# Altium integrated library Silicon Labs Small Form Factor MCUs.IntLib: 100 symbols (part 4 of 5)
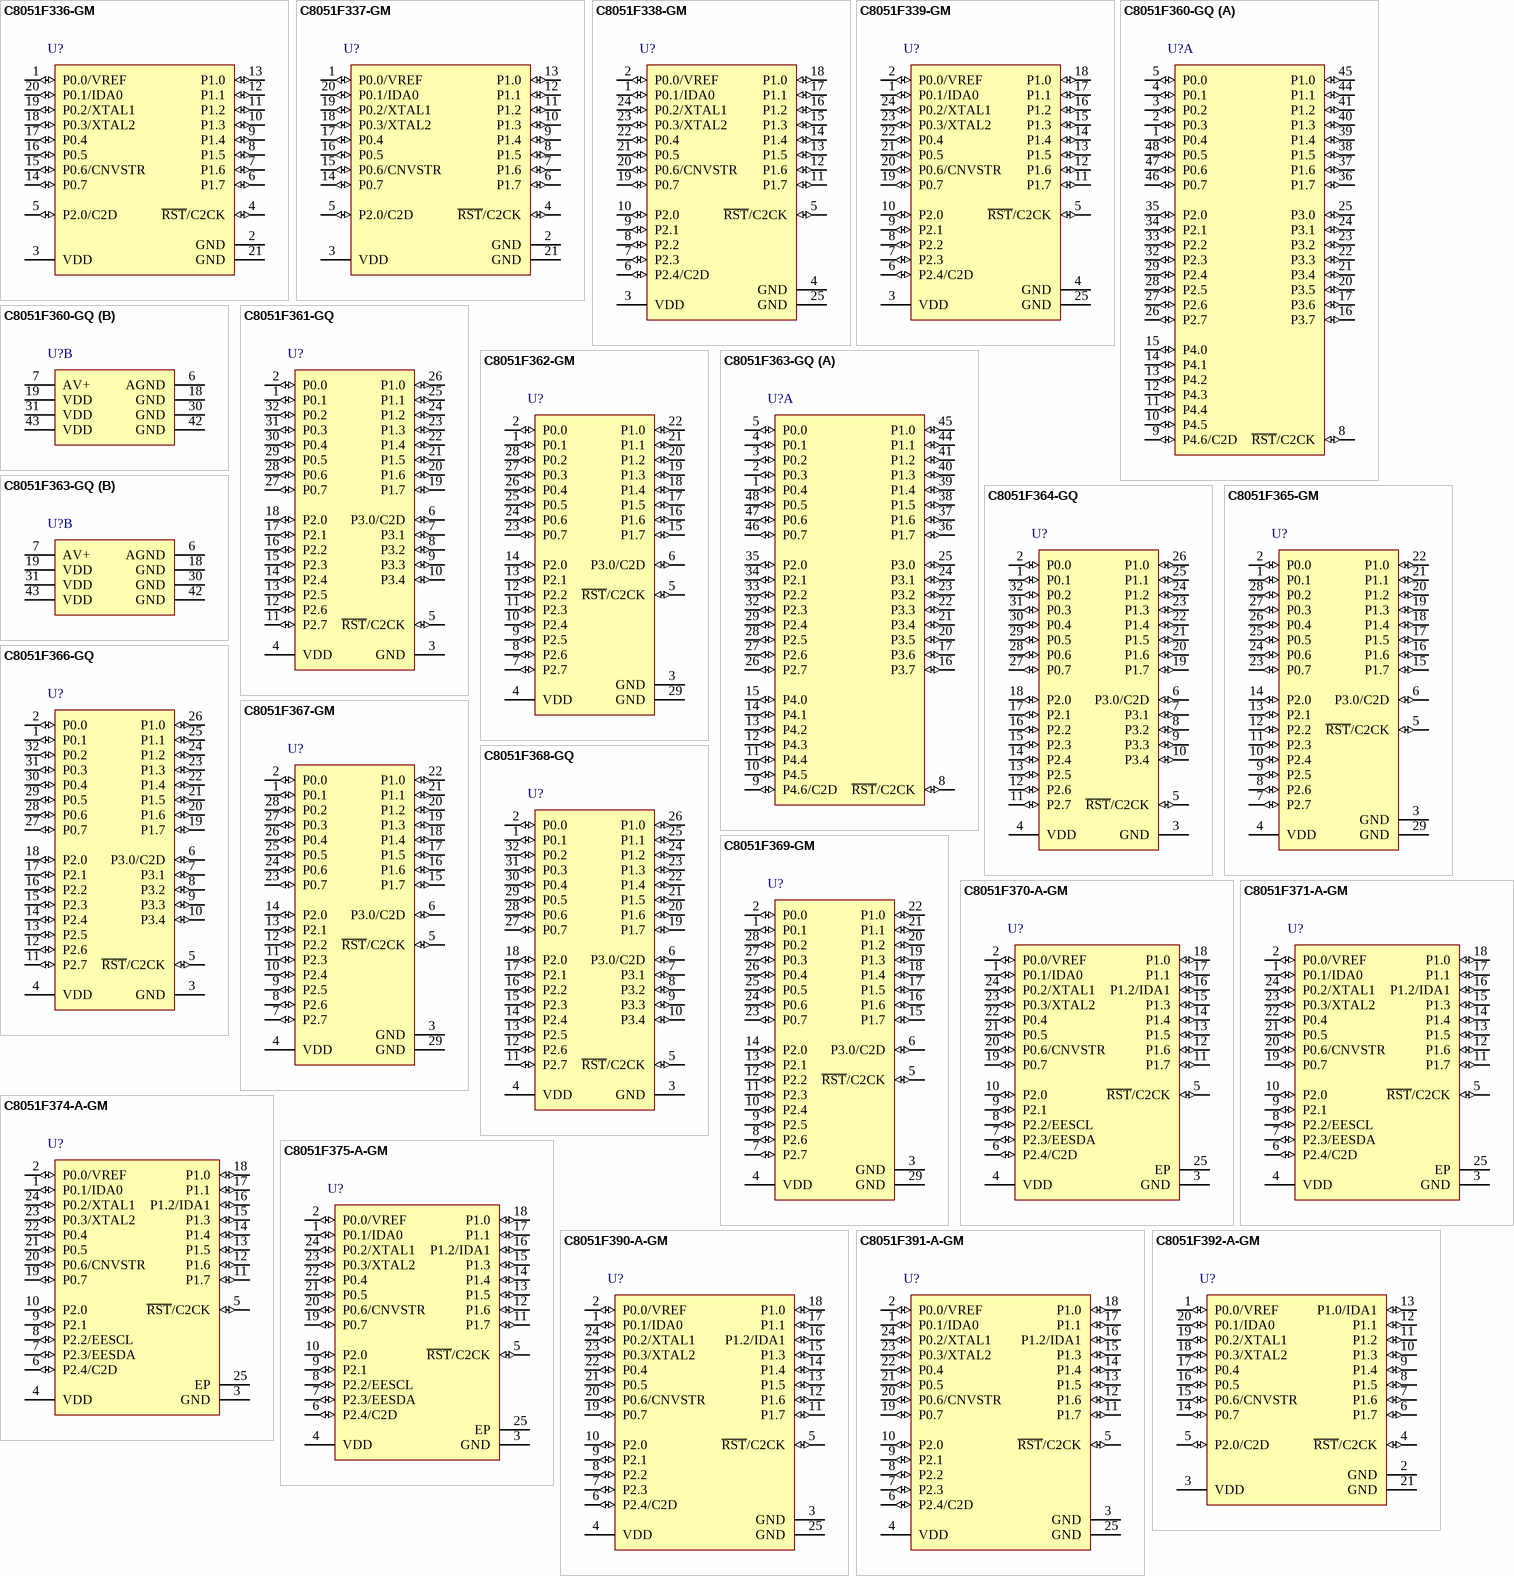
[diagram p7: symbols C8051F336-GM to C8051F392-A-GM]

## C8051F371-A-GM
designator U?
50 MIPS 512B EEPROM Mixed-Signal MCU, 50 MHz, 1 kB RAM, 16 kB Flash, -40 to 85 degC, 24-pin QFN; Manufacturer: Silicon Labs; PartNumber: C8051F371-A-GM; Comparators: 2; Debug Interface: C2; Dig I/O Pins: 21; Flash: 16 kB; Internal Osc. Accuracy: +/-2%; MCU Core: 8051; MHz: 50; PCA Channels: 3; RAM: 1 kB; Temp Sensor: FALSE; Timers (16-bit): 6; Sub-Family: Small Form Factor MCUs; DatasheetVersion: Rev. 1.0; PackageReference: QFN-24; PackageDescription: 24-Pin Quad-Flat No-Leads Package, Body 4 x 4 mm, Pitch 0.5 mm; Supplier 1: Digi-Key; Supplier Part Number 1: 336-2299-5-ND; Supplier 2: Mouser; Supplier Part Number 2: 634-C8051F371-A-GM; Mounting Technology: Surface Mount; Code_JEDEC: MO-220; Code_IPC: J-STD-020; ComponentLink1Description: Manufacturer URL; ComponentLink1URL: http://www.silabs.com/; ComponentLink2Description: Datasheet; ComponentLink2URL: http://www.silabs.com/Support Documents/TechnicalDocs/C8051F39x-37x.pdf; ComponentLink3Description: Package Specification; ComponentLink3URL: http://www.silabs.com/Support%20Documents/TechnicalDocs/C8051F93x-92x.pdf
footprint SLAB-QFN-24-2675x2675TP_N (QFN, 24-Leads, Body 4x4mm, Pitch 0.5mm, Thermal Pad 2.68x2.68mm, IPC Medium Density)
footprint SLAB-QFN-24-2675x2675TP_L (QFN, 24-Leads, Body 4x4mm, Pitch 0.5mm, Thermal Pad 2.68x2.68mm, IPC High Density)
footprint SLAB-QFN-24-2675x2675TP_M (QFN, 24-Leads, Body 4x4mm, Pitch 0.5mm, Thermal Pad 2.68x2.68mm, IPC Low Density)
pins: 1 P0.1/IDA0 (io), 2 P0.0/VREF (io), 3 GND (power) "Ground. This ground connection is required. The center pad may optionally be connected to ground also.", 4 VDD (power) "Power Supply Voltage", 5 ~{RST}/C2CK (io), 6 P2.4/C2D (io), 7 P2.3/EESDA (io), 8 P2.2/EESCL (io), 9 P2.1 (io) "Port 2.1.", 10 P2.0 (io) "Port 2.0. (Also C2D on 20-pin Packaging)", 11 P1.7 (io) "Port 1.7.", 12 P1.6 (io) "Port 1.6.", 13 P1.5 (io) "Port 1.5.", 14 P1.4 (io) "Port 1.4.", 15 P1.3 (io) "Port 1.3.", 16 P1.2/IDA1 (io), 17 P1.1 (io) "Port 1.1.", 18 P1.0 (io) "Port 1.0.", 19 P0.7 (io) "Port 0.7.", 20 P0.6/CNVSTR (io), 21 P0.5 (io) "Port 0.5.", 22 P0.4 (io) "Port 0.4.", 23 P0.3/XTAL2 (io), 24 P0.2/XTAL1 (io), 25 EP (power)

## C8051F374-A-GM
designator U?
50 MIPS 512B EEPROM Mixed-Signal MCU, 50 MHz, 1 kB RAM, 8 kB Flash, -40 to 85 degC, 24-pin QFN; Manufacturer: Silicon Labs; PartNumber: C8051F374-A-GM; ADC 1: 10-bit, 16-ch., 500 ksps; Comparators: 1; DAC: 10-bit, 2-ch.; Debug Interface: C2; Dig I/O Pins: 21; Flash: 8 kB; Internal Osc. Accuracy: +/-2%; MCU Core: 8051; MHz: 50; PCA Channels: 3; RAM: 1 kB; Temp Sensor: TRUE; Timers (16-bit): 6; Sub-Family: Small Form Factor MCUs; DatasheetVersion: Rev. 1.0; PackageReference: QFN-24; PackageDescription: 24-Pin Quad-Flat No-Leads Package, Body 4 x 4 mm, Pitch 0.5 mm; Supplier 1: Digi-Key; Supplier Part Number 1: 336-2298-5-ND; Supplier 2: Mouser; Supplier Part Number 2: 634-C8051F374-A-GM; Mounting Technology: Surface Mount; Code_JEDEC: MO-220; Code_IPC: J-STD-020; ComponentLink1Description: Manufacturer URL; ComponentLink1URL: http://www.silabs.com/; ComponentLink2Description: Datasheet; ComponentLink2URL: http://www.silabs.com/Support Documents/TechnicalDocs/C8051F39x-37x.pdf; ComponentLink3Description: Package Specification; ComponentLink3URL: http://www.silabs.com/Support%20Documents/TechnicalDocs/C8051F93x-92x.pdf
footprint SLAB-QFN-24-2675x2675TP_N (QFN, 24-Leads, Body 4x4mm, Pitch 0.5mm, Thermal Pad 2.68x2.68mm, IPC Medium Density)
footprint SLAB-QFN-24-2675x2675TP_L (QFN, 24-Leads, Body 4x4mm, Pitch 0.5mm, Thermal Pad 2.68x2.68mm, IPC High Density)
footprint SLAB-QFN-24-2675x2675TP_M (QFN, 24-Leads, Body 4x4mm, Pitch 0.5mm, Thermal Pad 2.68x2.68mm, IPC Low Density)
pins: 1 P0.1/IDA0 (io), 2 P0.0/VREF (io), 3 GND (power) "Ground. This ground connection is required. The center pad may optionally be connected to ground also.", 4 VDD (power) "Power Supply Voltage", 5 ~{RST}/C2CK (io), 6 P2.4/C2D (io), 7 P2.3/EESDA (io), 8 P2.2/EESCL (io), 9 P2.1 (io) "Port 2.1.", 10 P2.0 (io) "Port 2.0. (Also C2D on 20-pin Packaging)", 11 P1.7 (io) "Port 1.7.", 12 P1.6 (io) "Port 1.6.", 13 P1.5 (io) "Port 1.5.", 14 P1.4 (io) "Port 1.4.", 15 P1.3 (io) "Port 1.3.", 16 P1.2/IDA1 (io), 17 P1.1 (io) "Port 1.1.", 18 P1.0 (io) "Port 1.0.", 19 P0.7 (io) "Port 0.7.", 20 P0.6/CNVSTR (io), 21 P0.5 (io) "Port 0.5.", 22 P0.4 (io) "Port 0.4.", 23 P0.3/XTAL2 (io), 24 P0.2/XTAL1 (io), 25 EP (power)

## C8051F375-A-GM
designator U?
50 MIPS 512B EEPROM Mixed-Signal MCU, 50 MHz, 1 kB RAM, 8 kB Flash, -40 to 85 degC, 24-pin QFN; Manufacturer: Silicon Labs; PartNumber: C8051F375-A-GM; Comparators: 1; Debug Interface: C2; Dig I/O Pins: 21; Flash: 8 kB; Internal Osc. Accuracy: +/-2%; MCU Core: 8051; MHz: 50; PCA Channels: 3; RAM: 1 kB; Temp Sensor: FALSE; Timers (16-bit): 6; Sub-Family: Small Form Factor MCUs; DatasheetVersion: Rev. 1.0; PackageReference: QFN-24; PackageDescription: 24-Pin Quad-Flat No-Leads Package, Body 4 x 4 mm, Pitch 0.5 mm; Supplier 1: Digi-Key; Supplier Part Number 1: 336-2297-5-ND; Supplier 2: Mouser; Supplier Part Number 2: 634-C8051F375-A-GM; Mounting Technology: Surface Mount; Code_JEDEC: MO-220; Code_IPC: J-STD-020; ComponentLink1Description: Manufacturer URL; ComponentLink1URL: http://www.silabs.com/; ComponentLink2Description: Datasheet; ComponentLink2URL: http://www.silabs.com/Support Documents/TechnicalDocs/C8051F39x-37x.pdf; ComponentLink3Description: Package Specification; ComponentLink3URL: http://www.silabs.com/Support%20Documents/TechnicalDocs/C8051F93x-92x.pdf
footprint SLAB-QFN-24-2675x2675TP_N (QFN, 24-Leads, Body 4x4mm, Pitch 0.5mm, Thermal Pad 2.68x2.68mm, IPC Medium Density)
footprint SLAB-QFN-24-2675x2675TP_L (QFN, 24-Leads, Body 4x4mm, Pitch 0.5mm, Thermal Pad 2.68x2.68mm, IPC High Density)
footprint SLAB-QFN-24-2675x2675TP_M (QFN, 24-Leads, Body 4x4mm, Pitch 0.5mm, Thermal Pad 2.68x2.68mm, IPC Low Density)
pins: 1 P0.1/IDA0 (io), 2 P0.0/VREF (io), 3 GND (power) "Ground. This ground connection is required. The center pad may optionally be connected to ground also.", 4 VDD (power) "Power Supply Voltage", 5 ~{RST}/C2CK (io), 6 P2.4/C2D (io), 7 P2.3/EESDA (io), 8 P2.2/EESCL (io), 9 P2.1 (io) "Port 2.1.", 10 P2.0 (io) "Port 2.0. (Also C2D on 20-pin Packaging)", 11 P1.7 (io) "Port 1.7.", 12 P1.6 (io) "Port 1.6.", 13 P1.5 (io) "Port 1.5.", 14 P1.4 (io) "Port 1.4.", 15 P1.3 (io) "Port 1.3.", 16 P1.2/IDA1 (io), 17 P1.1 (io) "Port 1.1.", 18 P1.0 (io) "Port 1.0.", 19 P0.7 (io) "Port 0.7.", 20 P0.6/CNVSTR (io), 21 P0.5 (io) "Port 0.5.", 22 P0.4 (io) "Port 0.4.", 23 P0.3/XTAL2 (io), 24 P0.2/XTAL1 (io), 25 EP (power)

## C8051F390-A-GM
designator U?
50 MIPS 512B EEPROM Mixed-Signal MCU, 50 MHz, 1 kB RAM, 16 kB Flash, -40 to 105 degC, 24-pin QFN; Manufacturer: Silicon Labs; PartNumber: C8051F390-A-GM; ADC 1: 10-bit, 16-ch., 500 ksps; Comparators: 1; DAC: 10-bit, 2-ch.; Debug Interface: C2; Dig I/O Pins: 21; Flash: 16 kB; Internal Osc. Accuracy: +/-2%; MCU Core: 8051; MHz: 50; PCA Channels: 3; RAM: 1 kB; Temp Sensor: TRUE; Timers (16-bit): 6; Sub-Family: Small Form Factor MCUs; DatasheetVersion: Rev. 1.0; PackageReference: QFN-24; PackageDescription: 24-Pin Quad-Flat No-Leads Package, Body 4 x 4 mm, Pitch 0.5 mm; Supplier 1: Digi-Key; Supplier Part Number 1: 336-2310-5-ND; Supplier 2: Mouser; Supplier Part Number 2: 634-C8051F390-A-GM; Mounting Technology: Surface Mount; Code_JEDEC: MO-220; Code_IPC: J-STD-020; ComponentLink1Description: Manufacturer URL; ComponentLink1URL: http://www.silabs.com/; ComponentLink2Description: Datasheet; ComponentLink2URL: http://www.silabs.com/Support Documents/TechnicalDocs/C8051F39x-37x.pdf; ComponentLink3Description: Package Specification; ComponentLink3URL: http://www.silabs.com/Support%20Documents/TechnicalDocs/C8051F93x-92x.pdf
footprint SLAB-QFN-24-2675x2675TP_N (QFN, 24-Leads, Body 4x4mm, Pitch 0.5mm, Thermal Pad 2.68x2.68mm, IPC Medium Density)
footprint SLAB-QFN-24-2675x2675TP_L (QFN, 24-Leads, Body 4x4mm, Pitch 0.5mm, Thermal Pad 2.68x2.68mm, IPC High Density)
footprint SLAB-QFN-24-2675x2675TP_M (QFN, 24-Leads, Body 4x4mm, Pitch 0.5mm, Thermal Pad 2.68x2.68mm, IPC Low Density)
pins: 1 P0.1/IDA0 (io), 2 P0.0/VREF (io), 3 GND (power) "Ground. This ground connection is required. The center pad may optionally be connected to ground also.", 4 VDD (power) "Power Supply Voltage", 5 ~{RST}/C2CK (io), 6 P2.4/C2D (io), 7 P2.3 (io) "Port 2.3.", 8 P2.2 (io) "Port 2.2.", 9 P2.1 (io) "Port 2.1.", 10 P2.0 (io) "Port 2.0. (Also C2D on 20-pin Packaging)", 11 P1.7 (io) "Port 1.7.", 12 P1.6 (io) "Port 1.6.", 13 P1.5 (io) "Port 1.5.", 14 P1.4 (io) "Port 1.4.", 15 P1.3 (io) "Port 1.3.", 16 P1.2/IDA1 (io), 17 P1.1 (io) "Port 1.1.", 18 P1.0 (io) "Port 1.0.", 19 P0.7 (io) "Port 0.7.", 20 P0.6/CNVSTR (io), 21 P0.5 (io) "Port 0.5.", 22 P0.4 (io) "Port 0.4.", 23 P0.3/XTAL2 (io), 24 P0.2/XTAL1 (io), 25 GND (power)

## C8051F391-A-GM
designator U?
50 MIPS 512B EEPROM Mixed-Signal MCU, 50 MHz, 1 kB RAM, 16 kB Flash, -40 to 105 degC, 24-pin QFN; Manufacturer: Silicon Labs; PartNumber: C8051F391-A-GM; Comparators: 1; Debug Interface: C2; Dig I/O Pins: 21; Flash: 16 kB; Internal Osc. Accuracy: +/-2%; MCU Core: 8051; MHz: 50; PCA Channels: 3; RAM: 1 kB; Temp Sensor: FALSE; Timers (16-bit): 6; Sub-Family: Small Form Factor MCUs; DatasheetVersion: Rev. 1.0; PackageReference: QFN-24; PackageDescription: 24-Pin Quad-Flat No-Leads Package, Body 4 x 4 mm, Pitch 0.5 mm; Supplier 1: Digi-Key; Supplier Part Number 1: 336-2309-5-ND; Supplier 2: Mouser; Supplier Part Number 2: 634-C8051F391-A-GM; Mounting Technology: Surface Mount; Code_JEDEC: MO-220; Code_IPC: J-STD-020; ComponentLink1Description: Manufacturer URL; ComponentLink1URL: http://www.silabs.com/; ComponentLink2Description: Datasheet; ComponentLink2URL: http://www.silabs.com/Support Documents/TechnicalDocs/C8051F39x-37x.pdf; ComponentLink3Description: Package Specification; ComponentLink3URL: http://www.silabs.com/Support%20Documents/TechnicalDocs/C8051F93x-92x.pdf
footprint SLAB-QFN-24-2675x2675TP_N (QFN, 24-Leads, Body 4x4mm, Pitch 0.5mm, Thermal Pad 2.68x2.68mm, IPC Medium Density)
footprint SLAB-QFN-24-2675x2675TP_L (QFN, 24-Leads, Body 4x4mm, Pitch 0.5mm, Thermal Pad 2.68x2.68mm, IPC High Density)
footprint SLAB-QFN-24-2675x2675TP_M (QFN, 24-Leads, Body 4x4mm, Pitch 0.5mm, Thermal Pad 2.68x2.68mm, IPC Low Density)
pins: 1 P0.1/IDA0 (io), 2 P0.0/VREF (io), 3 GND (power) "Ground. This ground connection is required. The center pad may optionally be connected to ground also.", 4 VDD (power) "Power Supply Voltage", 5 ~{RST}/C2CK (io), 6 P2.4/C2D (io), 7 P2.3 (io) "Port 2.3.", 8 P2.2 (io) "Port 2.2.", 9 P2.1 (io) "Port 2.1.", 10 P2.0 (io) "Port 2.0. (Also C2D on 20-pin Packaging)", 11 P1.7 (io) "Port 1.7.", 12 P1.6 (io) "Port 1.6.", 13 P1.5 (io) "Port 1.5.", 14 P1.4 (io) "Port 1.4.", 15 P1.3 (io) "Port 1.3.", 16 P1.2/IDA1 (io), 17 P1.1 (io) "Port 1.1.", 18 P1.0 (io) "Port 1.0.", 19 P0.7 (io) "Port 0.7.", 20 P0.6/CNVSTR (io), 21 P0.5 (io) "Port 0.5.", 22 P0.4 (io) "Port 0.4.", 23 P0.3/XTAL2 (io), 24 P0.2/XTAL1 (io), 25 GND (power)

## C8051F392-A-GM
designator U?
50 MIPS 512B EEPROM Mixed-Signal MCU, 50 MHz, 1 kB RAM, 16 kB Flash, -40 to 105 degC, 20-pin QFN; Manufacturer: Silicon Labs; PartNumber: C8051F392-A-GM; ADC 1: 10-bit, 16-ch., 500 ksps; Comparators: 1; DAC: 10-bit, 2-ch.; Debug Interface: C2; Dig I/O Pins: 17; Flash: 16 kB; Internal Osc. Accuracy: +/-2%; MCU Core: 8051; MHz: 50; PCA Channels: 3; RAM: 1 kB; Temp Sensor: TRUE; Timers (16-bit): 6; Sub-Family: Small Form Factor MCUs; DatasheetVersion: Rev. 1.0; PackageReference: QFN-20; PackageDescription: 20-Pin Quad-Flat No-Leads Package, Body 4 x 4 mm, Pitch 0.5 mm; Supplier 1: Digi-Key; Supplier Part Number 1: 336-2308-5-ND; Supplier 2: Mouser; Supplier Part Number 2: 634-C8051F392-A-GM; Mounting Technology: Surface Mount; Code_JEDEC: MO-220; Code_IPC: J-STD-020C; ComponentLink1Description: Manufacturer URL; ComponentLink1URL: http://www.silabs.com/; ComponentLink2Description: Datasheet; ComponentLink2URL: http://www.silabs.com/Support Documents/TechnicalDocs/C8051F39x-37x.pdf; ComponentLink3Description: Package Specification; ComponentLink3URL: http://www.silabs.com/Support%20Documents/TechnicalDocs/C8051F39x-37x.pdf
footprint SLAB-QFN-20-2100x2100TP_N (QFN, 20-Leads, Body 4x4mm, Pitch 0.5mm, Thermal Pad 2.1x2.1mm, IPC Medium Density)
footprint SLAB-QFN-20-2100x2100TP_L (QFN, 20-Leads, Body 4x4mm, Pitch 0.5mm, Thermal Pad 2.1x2.1mm, IPC High Density)
footprint SLAB-QFN-20-2100x2100TP_M (QFN, 20-Leads, Body 4x4mm, Pitch 0.5mm, Thermal Pad 2.1x2.1mm, IPC Low Density)
pins: 1 P0.0/VREF (io), 2 GND (power) "Ground. This ground connection is required. The center pad may optionally be connected to ground also.", 3 VDD (power) "Power Supply Voltage.", 4 ~{RST}/C2CK (io), 5 P2.0/C2D (io) "Bi-directional data signal for the C2 Debug Interface. Shared with P2.0 on 20-pin packaging and P2.4 on 24-pin packaging.", 6 P1.7 (io) "Port 1.7.", 7 P1.6 (io) "Port 1.6.", 8 P1.5 (io) "Port 1.5.", 9 P1.4 (io) "Port 1.4.", 10 P1.3 (io) "Port 1.3.", 11 P1.2 (io) "Port 1.2.", 12 P1.1 (io) "Port 1.1.", 13 P1.0/IDA1 (io), 14 P0.7 (io) "Port 0.7.", 15 P0.6/CNVSTR (io), 16 P0.5 (io) "Port 0.5.", 17 P0.4 (io) "Port 0.4.", 18 P0.3/XTAL2 (io), 19 P0.2/XTAL1 (io), 20 P0.1/IDA0 (io), 21 GND (power)

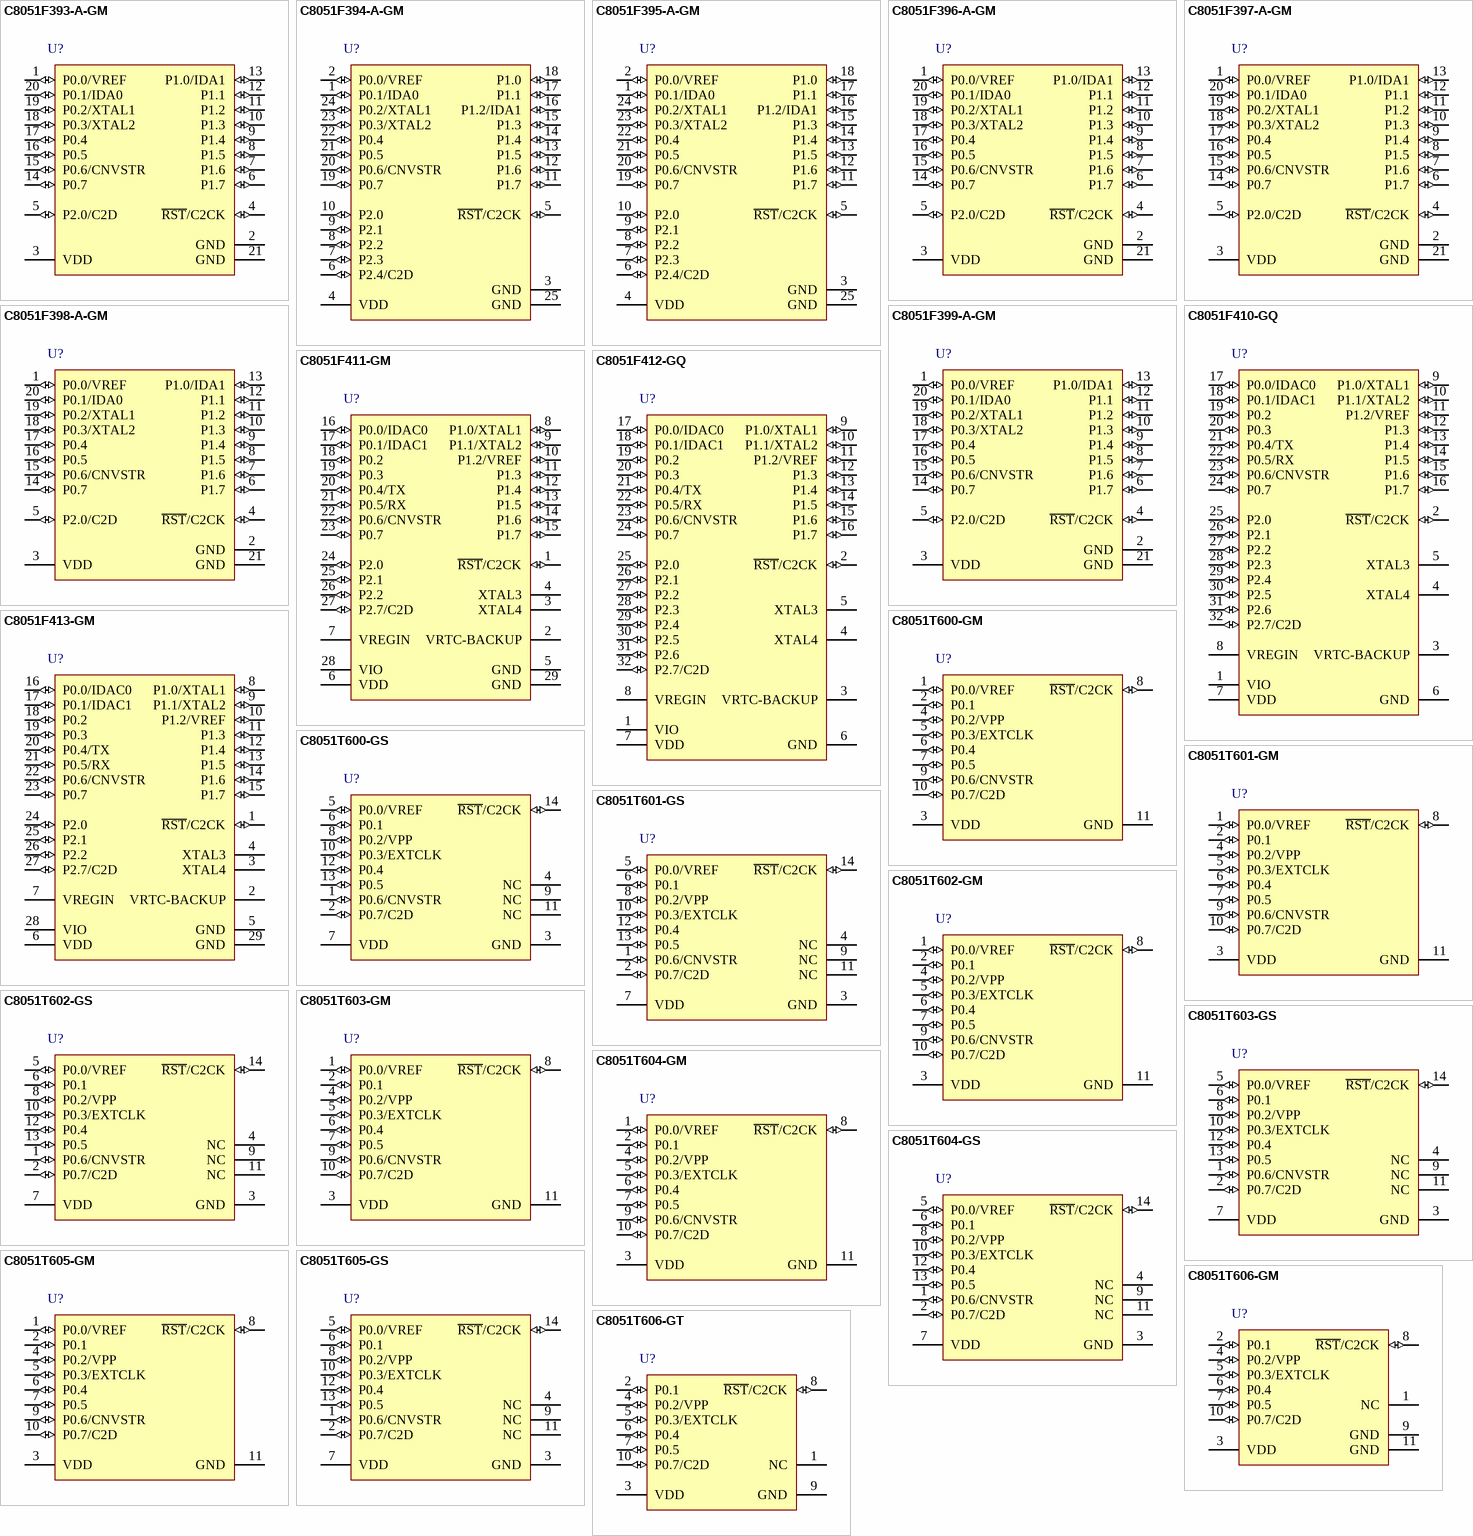
[diagram p3: symbols C8051F393-A-GM to C8051T606-GT]

## C8051F393-A-GM
designator U?
50 MIPS 512B EEPROM Mixed-Signal MCU, 50 MHz, 1 kB RAM, 16 kB Flash, -40 to 105 degC, 20-pin QFN; Manufacturer: Silicon Labs; PartNumber: C8051F393-A-GM; Comparators: 1; Debug Interface: C2; Dig I/O Pins: 17; Flash: 16 kB; Internal Osc. Accuracy: +/-2%; MCU Core: 8051; MHz: 50; PCA Channels: 3; RAM: 1 kB; Temp Sensor: FALSE; Timers (16-bit): 6; Sub-Family: Small Form Factor MCUs; DatasheetVersion: Rev. 1.0; PackageReference: QFN-20; PackageDescription: 20-Pin Quad-Flat No-Leads Package, Body 4 x 4 mm, Pitch 0.5 mm; Supplier 1: Digi-Key; Supplier Part Number 1: 336-2307-5-ND; Supplier 2: Mouser; Supplier Part Number 2: 634-C8051F393-A-GM; Mounting Technology: Surface Mount; Code_JEDEC: MO-220; Code_IPC: J-STD-020C; ComponentLink1Description: Manufacturer URL; ComponentLink1URL: http://www.silabs.com/; ComponentLink2Description: Datasheet; ComponentLink2URL: http://www.silabs.com/Support Documents/TechnicalDocs/C8051F39x-37x.pdf; ComponentLink3Description: Package Specification; ComponentLink3URL: http://www.silabs.com/Support%20Documents/TechnicalDocs/C8051F39x-37x.pdf
footprint SLAB-QFN-20-2100x2100TP_N (QFN, 20-Leads, Body 4x4mm, Pitch 0.5mm, Thermal Pad 2.1x2.1mm, IPC Medium Density)
footprint SLAB-QFN-20-2100x2100TP_L (QFN, 20-Leads, Body 4x4mm, Pitch 0.5mm, Thermal Pad 2.1x2.1mm, IPC High Density)
footprint SLAB-QFN-20-2100x2100TP_M (QFN, 20-Leads, Body 4x4mm, Pitch 0.5mm, Thermal Pad 2.1x2.1mm, IPC Low Density)
pins: 1 P0.0/VREF (io), 2 GND (power) "Ground. This ground connection is required. The center pad may optionally be connected to ground also.", 3 VDD (power) "Power Supply Voltage.", 4 ~{RST}/C2CK (io), 5 P2.0/C2D (io) "Bi-directional data signal for the C2 Debug Interface. Shared with P2.0 on 20-pin packaging and P2.4 on 24-pin packaging.", 6 P1.7 (io) "Port 1.7.", 7 P1.6 (io) "Port 1.6.", 8 P1.5 (io) "Port 1.5.", 9 P1.4 (io) "Port 1.4.", 10 P1.3 (io) "Port 1.3.", 11 P1.2 (io) "Port 1.2.", 12 P1.1 (io) "Port 1.1.", 13 P1.0/IDA1 (io), 14 P0.7 (io) "Port 0.7.", 15 P0.6/CNVSTR (io), 16 P0.5 (io) "Port 0.5.", 17 P0.4 (io) "Port 0.4.", 18 P0.3/XTAL2 (io), 19 P0.2/XTAL1 (io), 20 P0.1/IDA0 (io), 21 GND (power)

## C8051F394-A-GM
designator U?
50 MIPS 512B EEPROM Mixed-Signal MCU, 50 MHz, 1 kB RAM, 8 kB Flash, -40 to 105 degC, 24-pin QFN; Manufacturer: Silicon Labs; PartNumber: C8051F394-A-GM; ADC 1: 10-bit, 16-ch., 500 ksps; Comparators: 1; DAC: 10-bit, 2-ch.; Debug Interface: C2; Dig I/O Pins: 21; Flash: 8 kB; Internal Osc. Accuracy: +/-2%; MCU Core: 8051; MHz: 50; PCA Channels: 3; RAM: 1 kB; Temp Sensor: TRUE; Timers (16-bit): 6; Sub-Family: Small Form Factor MCUs; DatasheetVersion: Rev. 1.0; PackageReference: QFN-24; PackageDescription: 24-Pin Quad-Flat No-Leads Package, Body 4 x 4 mm, Pitch 0.5 mm; Supplier 1: Digi-Key; Supplier Part Number 1: 336-2306-5-ND; Supplier 2: Mouser; Supplier Part Number 2: 634-C8051F394-A-GM; Mounting Technology: Surface Mount; Code_JEDEC: MO-220; Code_IPC: J-STD-020; ComponentLink1Description: Manufacturer URL; ComponentLink1URL: http://www.silabs.com/; ComponentLink2Description: Datasheet; ComponentLink2URL: http://www.silabs.com/Support Documents/TechnicalDocs/C8051F39x-37x.pdf; ComponentLink3Description: Package Specification; ComponentLink3URL: http://www.silabs.com/Support%20Documents/TechnicalDocs/C8051F93x-92x.pdf
footprint SLAB-QFN-24-2675x2675TP_N (QFN, 24-Leads, Body 4x4mm, Pitch 0.5mm, Thermal Pad 2.68x2.68mm, IPC Medium Density)
footprint SLAB-QFN-24-2675x2675TP_L (QFN, 24-Leads, Body 4x4mm, Pitch 0.5mm, Thermal Pad 2.68x2.68mm, IPC High Density)
footprint SLAB-QFN-24-2675x2675TP_M (QFN, 24-Leads, Body 4x4mm, Pitch 0.5mm, Thermal Pad 2.68x2.68mm, IPC Low Density)
pins: 1 P0.1/IDA0 (io), 2 P0.0/VREF (io), 3 GND (power) "Ground. This ground connection is required. The center pad may optionally be connected to ground also.", 4 VDD (power) "Power Supply Voltage", 5 ~{RST}/C2CK (io), 6 P2.4/C2D (io), 7 P2.3 (io) "Port 2.3.", 8 P2.2 (io) "Port 2.2.", 9 P2.1 (io) "Port 2.1.", 10 P2.0 (io) "Port 2.0. (Also C2D on 20-pin Packaging)", 11 P1.7 (io) "Port 1.7.", 12 P1.6 (io) "Port 1.6.", 13 P1.5 (io) "Port 1.5.", 14 P1.4 (io) "Port 1.4.", 15 P1.3 (io) "Port 1.3.", 16 P1.2/IDA1 (io), 17 P1.1 (io) "Port 1.1.", 18 P1.0 (io) "Port 1.0.", 19 P0.7 (io) "Port 0.7.", 20 P0.6/CNVSTR (io), 21 P0.5 (io) "Port 0.5.", 22 P0.4 (io) "Port 0.4.", 23 P0.3/XTAL2 (io), 24 P0.2/XTAL1 (io), 25 GND (power)

## C8051F395-A-GM
designator U?
50 MIPS 512B EEPROM Mixed-Signal MCU, 50 MHz, 1 kB RAM, 8 kB Flash, -40 to 105 degC, 24-pin QFN; Manufacturer: Silicon Labs; PartNumber: C8051F395-A-GM; Comparators: 1; Debug Interface: C2; Dig I/O Pins: 21; Flash: 8 kB; Internal Osc. Accuracy: +/-2%; MCU Core: 8051; MHz: 50; PCA Channels: 3; RAM: 1 kB; Temp Sensor: FALSE; Timers (16-bit): 6; Sub-Family: Small Form Factor MCUs; DatasheetVersion: Rev. 1.0; PackageReference: QFN-24; PackageDescription: 24-Pin Quad-Flat No-Leads Package, Body 4 x 4 mm, Pitch 0.5 mm; Supplier 1: Digi-Key; Supplier Part Number 1: 336-2305-5-ND; Supplier 2: Mouser; Supplier Part Number 2: 634-C8051F395-A-GM; Mounting Technology: Surface Mount; Code_JEDEC: MO-220; Code_IPC: J-STD-020; ComponentLink1Description: Manufacturer URL; ComponentLink1URL: http://www.silabs.com/; ComponentLink2Description: Datasheet; ComponentLink2URL: http://www.silabs.com/Support Documents/TechnicalDocs/C8051F39x-37x.pdf; ComponentLink3Description: Package Specification; ComponentLink3URL: http://www.silabs.com/Support%20Documents/TechnicalDocs/C8051F93x-92x.pdf
footprint SLAB-QFN-24-2675x2675TP_N (QFN, 24-Leads, Body 4x4mm, Pitch 0.5mm, Thermal Pad 2.68x2.68mm, IPC Medium Density)
footprint SLAB-QFN-24-2675x2675TP_L (QFN, 24-Leads, Body 4x4mm, Pitch 0.5mm, Thermal Pad 2.68x2.68mm, IPC High Density)
footprint SLAB-QFN-24-2675x2675TP_M (QFN, 24-Leads, Body 4x4mm, Pitch 0.5mm, Thermal Pad 2.68x2.68mm, IPC Low Density)
pins: 1 P0.1/IDA0 (io), 2 P0.0/VREF (io), 3 GND (power) "Ground. This ground connection is required. The center pad may optionally be connected to ground also.", 4 VDD (power) "Power Supply Voltage", 5 ~{RST}/C2CK (io), 6 P2.4/C2D (io), 7 P2.3 (io) "Port 2.3.", 8 P2.2 (io) "Port 2.2.", 9 P2.1 (io) "Port 2.1.", 10 P2.0 (io) "Port 2.0. (Also C2D on 20-pin Packaging)", 11 P1.7 (io) "Port 1.7.", 12 P1.6 (io) "Port 1.6.", 13 P1.5 (io) "Port 1.5.", 14 P1.4 (io) "Port 1.4.", 15 P1.3 (io) "Port 1.3.", 16 P1.2/IDA1 (io), 17 P1.1 (io) "Port 1.1.", 18 P1.0 (io) "Port 1.0.", 19 P0.7 (io) "Port 0.7.", 20 P0.6/CNVSTR (io), 21 P0.5 (io) "Port 0.5.", 22 P0.4 (io) "Port 0.4.", 23 P0.3/XTAL2 (io), 24 P0.2/XTAL1 (io), 25 GND (power)

## C8051F396-A-GM
designator U?
50 MIPS 512B EEPROM Mixed-Signal MCU, 50 MHz, 1 kB RAM, 8 kB Flash, -40 to 105 degC, 20-pin QFN; Manufacturer: Silicon Labs; PartNumber: C8051F396-A-GM; ADC 1: 10-bit, 16-ch., 500 ksps; Comparators: 1; DAC: 10-bit, 2-ch.; Debug Interface: C2; Dig I/O Pins: 17; Flash: 8 kB; Internal Osc. Accuracy: +/-2%; MCU Core: 8051; MHz: 50; PCA Channels: 3; RAM: 1 kB; Temp Sensor: TRUE; Timers (16-bit): 6; Sub-Family: Small Form Factor MCUs; DatasheetVersion: Rev. 1.0; PackageReference: QFN-20; PackageDescription: 20-Pin Quad-Flat No-Leads Package, Body 4 x 4 mm, Pitch 0.5 mm; Supplier 1: Digi-Key; Supplier Part Number 1: 336-2304-5-ND; Supplier 2: Mouser; Supplier Part Number 2: 634-C8051F396-A-GM; Mounting Technology: Surface Mount; Code_JEDEC: MO-220; Code_IPC: J-STD-020C; ComponentLink1Description: Manufacturer URL; ComponentLink1URL: http://www.silabs.com/; ComponentLink2Description: Datasheet; ComponentLink2URL: http://www.silabs.com/Support Documents/TechnicalDocs/C8051F39x-37x.pdf; ComponentLink3Description: Package Specification; ComponentLink3URL: http://www.silabs.com/Support%20Documents/TechnicalDocs/C8051F39x-37x.pdf
footprint SLAB-QFN-20-2100x2100TP_N (QFN, 20-Leads, Body 4x4mm, Pitch 0.5mm, Thermal Pad 2.1x2.1mm, IPC Medium Density)
footprint SLAB-QFN-20-2100x2100TP_L (QFN, 20-Leads, Body 4x4mm, Pitch 0.5mm, Thermal Pad 2.1x2.1mm, IPC High Density)
footprint SLAB-QFN-20-2100x2100TP_M (QFN, 20-Leads, Body 4x4mm, Pitch 0.5mm, Thermal Pad 2.1x2.1mm, IPC Low Density)
pins: 1 P0.0/VREF (io), 2 GND (power) "Ground. This ground connection is required. The center pad may optionally be connected to ground also.", 3 VDD (power) "Power Supply Voltage.", 4 ~{RST}/C2CK (io), 5 P2.0/C2D (io) "Bi-directional data signal for the C2 Debug Interface. Shared with P2.0 on 20-pin packaging and P2.4 on 24-pin packaging.", 6 P1.7 (io) "Port 1.7.", 7 P1.6 (io) "Port 1.6.", 8 P1.5 (io) "Port 1.5.", 9 P1.4 (io) "Port 1.4.", 10 P1.3 (io) "Port 1.3.", 11 P1.2 (io) "Port 1.2.", 12 P1.1 (io) "Port 1.1.", 13 P1.0/IDA1 (io), 14 P0.7 (io) "Port 0.7.", 15 P0.6/CNVSTR (io), 16 P0.5 (io) "Port 0.5.", 17 P0.4 (io) "Port 0.4.", 18 P0.3/XTAL2 (io), 19 P0.2/XTAL1 (io), 20 P0.1/IDA0 (io), 21 GND (power)

## C8051F397-A-GM
designator U?
50 MIPS 512B EEPROM Mixed-Signal MCU, 50 MHz, 1 kB RAM, 8 kB Flash, -40 to 105 degC, 20-pin QFN; Manufacturer: Silicon Labs; PartNumber: C8051F397-A-GM; Comparators: 1; Debug Interface: C2; Dig I/O Pins: 17; Flash: 8 kB; Internal Osc. Accuracy: +/-2%; MCU Core: 8051; MHz: 50; PCA Channels: 3; RAM: 1 kB; Temp Sensor: FALSE; Timers (16-bit): 6; Sub-Family: Small Form Factor MCUs; DatasheetVersion: Rev. 1.0; PackageReference: QFN-20; PackageDescription: 20-Pin Quad-Flat No-Leads Package, Body 4 x 4 mm, Pitch 0.5 mm; Supplier 1: Digi-Key; Supplier Part Number 1: 336-2303-5-ND; Supplier 2: Mouser; Supplier Part Number 2: 634-C8051F397-A-GM; Mounting Technology: Surface Mount; Code_JEDEC: MO-220; Code_IPC: J-STD-020C; ComponentLink1Description: Manufacturer URL; ComponentLink1URL: http://www.silabs.com/; ComponentLink2Description: Datasheet; ComponentLink2URL: http://www.silabs.com/Support Documents/TechnicalDocs/C8051F39x-37x.pdf; ComponentLink3Description: Package Specification; ComponentLink3URL: http://www.silabs.com/Support%20Documents/TechnicalDocs/C8051F39x-37x.pdf
footprint SLAB-QFN-20-2100x2100TP_N (QFN, 20-Leads, Body 4x4mm, Pitch 0.5mm, Thermal Pad 2.1x2.1mm, IPC Medium Density)
footprint SLAB-QFN-20-2100x2100TP_L (QFN, 20-Leads, Body 4x4mm, Pitch 0.5mm, Thermal Pad 2.1x2.1mm, IPC High Density)
footprint SLAB-QFN-20-2100x2100TP_M (QFN, 20-Leads, Body 4x4mm, Pitch 0.5mm, Thermal Pad 2.1x2.1mm, IPC Low Density)
pins: 1 P0.0/VREF (io), 2 GND (power) "Ground. This ground connection is required. The center pad may optionally be connected to ground also.", 3 VDD (power) "Power Supply Voltage.", 4 ~{RST}/C2CK (io), 5 P2.0/C2D (io) "Bi-directional data signal for the C2 Debug Interface. Shared with P2.0 on 20-pin packaging and P2.4 on 24-pin packaging.", 6 P1.7 (io) "Port 1.7.", 7 P1.6 (io) "Port 1.6.", 8 P1.5 (io) "Port 1.5.", 9 P1.4 (io) "Port 1.4.", 10 P1.3 (io) "Port 1.3.", 11 P1.2 (io) "Port 1.2.", 12 P1.1 (io) "Port 1.1.", 13 P1.0/IDA1 (io), 14 P0.7 (io) "Port 0.7.", 15 P0.6/CNVSTR (io), 16 P0.5 (io) "Port 0.5.", 17 P0.4 (io) "Port 0.4.", 18 P0.3/XTAL2 (io), 19 P0.2/XTAL1 (io), 20 P0.1/IDA0 (io), 21 GND (power)

## C8051F398-A-GM
designator U?
50 MIPS 512B EEPROM Mixed-Signal MCU, 50 MHz, 1 kB RAM, 4 kB Flash, -40 to 105 degC, 20-pin QFN; Manufacturer: Silicon Labs; PartNumber: C8051F398-A-GM; ADC 1: 10-bit, 16-ch., 500 ksps; Comparators: 1; DAC: 10-bit, 2-ch.; Debug Interface: C2; Dig I/O Pins: 17; Flash: 4 kB; Internal Osc. Accuracy: +/-2%; MCU Core: 8051; MHz: 50; PCA Channels: 3; RAM: 1 kB; Temp Sensor: TRUE; Timers (16-bit): 6; Sub-Family: Small Form Factor MCUs; DatasheetVersion: Rev. 1.0; PackageReference: QFN-20; PackageDescription: 20-Pin Quad-Flat No-Leads Package, Body 4 x 4 mm, Pitch 0.5 mm; Supplier 1: Digi-Key; Supplier Part Number 1: 336-2302-5-ND; Supplier 2: Mouser; Supplier Part Number 2: 634-C8051F398-A-GM; Mounting Technology: Surface Mount; Code_JEDEC: MO-220; Code_IPC: J-STD-020C; ComponentLink1Description: Manufacturer URL; ComponentLink1URL: http://www.silabs.com/; ComponentLink2Description: Datasheet; ComponentLink2URL: http://www.silabs.com/Support Documents/TechnicalDocs/C8051F39x-37x.pdf; ComponentLink3Description: Package Specification; ComponentLink3URL: http://www.silabs.com/Support%20Documents/TechnicalDocs/C8051F39x-37x.pdf
footprint SLAB-QFN-20-2100x2100TP_N (QFN, 20-Leads, Body 4x4mm, Pitch 0.5mm, Thermal Pad 2.1x2.1mm, IPC Medium Density)
footprint SLAB-QFN-20-2100x2100TP_L (QFN, 20-Leads, Body 4x4mm, Pitch 0.5mm, Thermal Pad 2.1x2.1mm, IPC High Density)
footprint SLAB-QFN-20-2100x2100TP_M (QFN, 20-Leads, Body 4x4mm, Pitch 0.5mm, Thermal Pad 2.1x2.1mm, IPC Low Density)
pins: 1 P0.0/VREF (io), 2 GND (power) "Ground. This ground connection is required. The center pad may optionally be connected to ground also.", 3 VDD (power) "Power Supply Voltage.", 4 ~{RST}/C2CK (io), 5 P2.0/C2D (io) "Bi-directional data signal for the C2 Debug Interface. Shared with P2.0 on 20-pin packaging and P2.4 on 24-pin packaging.", 6 P1.7 (io) "Port 1.7.", 7 P1.6 (io) "Port 1.6.", 8 P1.5 (io) "Port 1.5.", 9 P1.4 (io) "Port 1.4.", 10 P1.3 (io) "Port 1.3.", 11 P1.2 (io) "Port 1.2.", 12 P1.1 (io) "Port 1.1.", 13 P1.0/IDA1 (io), 14 P0.7 (io) "Port 0.7.", 15 P0.6/CNVSTR (io), 16 P0.5 (io) "Port 0.5.", 17 P0.4 (io) "Port 0.4.", 18 P0.3/XTAL2 (io), 19 P0.2/XTAL1 (io), 20 P0.1/IDA0 (io), 21 GND (power)

## C8051F399-A-GM
designator U?
50 MIPS 512B EEPROM Mixed-Signal MCU, 50 MHz, 1 kB RAM, 4 kB Flash, -40 to 105 degC, 20-pin QFN; Manufacturer: Silicon Labs; PartNumber: C8051F399-A-GM; Comparators: 1; Debug Interface: C2; Dig I/O Pins: 17; Flash: 4 kB; Internal Osc. Accuracy: +/-2%; MCU Core: 8051; MHz: 50; PCA Channels: 3; RAM: 1 kB; Temp Sensor: FALSE; Timers (16-bit): 6; Sub-Family: Small Form Factor MCUs; DatasheetVersion: Rev. 1.0; PackageReference: QFN-20; PackageDescription: 20-Pin Quad-Flat No-Leads Package, Body 4 x 4 mm, Pitch 0.5 mm; Supplier 1: Digi-Key; Supplier Part Number 1: 336-2301-5-ND; Supplier 2: Mouser; Supplier Part Number 2: 634-C8051F399-A-GM; Mounting Technology: Surface Mount; Code_JEDEC: MO-220; Code_IPC: J-STD-020C; ComponentLink1Description: Manufacturer URL; ComponentLink1URL: http://www.silabs.com/; ComponentLink2Description: Datasheet; ComponentLink2URL: http://www.silabs.com/Support Documents/TechnicalDocs/C8051F39x-37x.pdf; ComponentLink3Description: Package Specification; ComponentLink3URL: http://www.silabs.com/Support%20Documents/TechnicalDocs/C8051F39x-37x.pdf
footprint SLAB-QFN-20-2100x2100TP_N (QFN, 20-Leads, Body 4x4mm, Pitch 0.5mm, Thermal Pad 2.1x2.1mm, IPC Medium Density)
footprint SLAB-QFN-20-2100x2100TP_L (QFN, 20-Leads, Body 4x4mm, Pitch 0.5mm, Thermal Pad 2.1x2.1mm, IPC High Density)
footprint SLAB-QFN-20-2100x2100TP_M (QFN, 20-Leads, Body 4x4mm, Pitch 0.5mm, Thermal Pad 2.1x2.1mm, IPC Low Density)
pins: 1 P0.0/VREF (io), 2 GND (power) "Ground. This ground connection is required. The center pad may optionally be connected to ground also.", 3 VDD (power) "Power Supply Voltage.", 4 ~{RST}/C2CK (io), 5 P2.0/C2D (io) "Bi-directional data signal for the C2 Debug Interface. Shared with P2.0 on 20-pin packaging and P2.4 on 24-pin packaging.", 6 P1.7 (io) "Port 1.7.", 7 P1.6 (io) "Port 1.6.", 8 P1.5 (io) "Port 1.5.", 9 P1.4 (io) "Port 1.4.", 10 P1.3 (io) "Port 1.3.", 11 P1.2 (io) "Port 1.2.", 12 P1.1 (io) "Port 1.1.", 13 P1.0/IDA1 (io), 14 P0.7 (io) "Port 0.7.", 15 P0.6/CNVSTR (io), 16 P0.5 (io) "Port 0.5.", 17 P0.4 (io) "Port 0.4.", 18 P0.3/XTAL2 (io), 19 P0.2/XTAL1 (io), 20 P0.1/IDA0 (io), 21 GND (power)

## C8051F410-GQ
designator U?
smaRTClock, 12-Bit ADC, 50 MHz, 2.25 kB RAM, 32 kB Flash, -40 to 85 degC, 32-pin QFP; Manufacturer: Silicon Labs; PartNumber: C8051F410-GQ; AEC-Q100: FALSE; Comparators: 2; DAC: 12-bit, 2-ch.; Debug Interface: C2; Dig I/O Pins: 24; Flash: 32 kB; Internal Osc. Accuracy: +/-2%; MCU Core: 8051; MHz: 50; PCA Channels: 6; RAM: 2.25 kB; Temp Sensor: TRUE; Timers (16-bit): 4; Sub-Family: Small Form Factor MCUs; DatasheetVersion: Rev. 1.1; PackageReference: LQFP-32; PackageDescription: 32-Pin Low-Profile Quad Flat Pack, Body 7 x 7 mm, Pitch 0.8 mm; Supplier 1: Digi-Key; Supplier Part Number 1: 336-1318-ND; Supplier 2: Farnell; Supplier Part Number 2: 1528388; Supplier 3: Farnell; Supplier Part Number 3: 1291530; Supplier 4: Mouser; Supplier Part Number 4: 634-C8051F410-GQ; Mounting Technology: Surface Mount; Code_JEDEC: MS-026; Code_IPC: J-STD-020; ComponentLink1Description: Manufacturer URL; ComponentLink1URL: http://www.silabs.com/; ComponentLink2Description: Datasheet; ComponentLink2URL: http://www.silabs.com/Support Documents/TechnicalDocs/C8051F41x.pdf; ComponentLink3Description: Package Specification; ComponentLink3URL: http://www.silabs.com/Support%20Documents/TechnicalDocs/C8051F38x.pdf
footprint SLAB-LQFP-32_N (QFP, 32-Leads, Body 7x7mm, Pitch 0.8mm, IPC Medium Density)
footprint SLAB-LQFP-32_L (QFP, 32-Leads, Body 7x7mm, Pitch 0.8mm, IPC High Density)
footprint SLAB-LQFP-32_M (QFP, 32-Leads, Body 7x7mm, Pitch 0.8mm, IPC Low Density)
pins: 1 VIO (power) "I/O Supply Voltage.", 2 ~{RST}/C2CK (io), 3 VRTC-BACKUP (power) "smaRTClock Backup Supply Voltage.", 4 XTAL4 "smaRTClock Oscillator Crystal Output. See Section 20. "smaRTClock (Real Time Clock)" for a complete description.", 5 XTAL3 "smaRTClock Oscillator Crystal Input. See Section 20. "smaRTClock (Real Time Clock)" for a complete description.", 6 GND (power) "Ground.", 7 VDD (power) "Core Supply Voltage.", 8 VREGIN (power) "On-Chip Voltage Regulator Input.", 9 P1.0/XTAL1 (io), 10 P1.1/XTAL2 (io), 11 P1.2/VREF (io), 12 P1.3 (io) "Port 1.3. See Port I/O Section for a complete description.", 13 P1.4 (io) "Port 1.4. See Port I/O Section for a complete description.", 14 P1.5 (io) "Port 1.5. See Port I/O Section for a complete description.", 15 P1.6 (io) "Port 1.6. See Port I/O Section for a complete description.", 16 P1.7 (io) "Port 1.7. See Port I/O Section for a complete description.", 17 P0.0/IDAC0 (io), 18 P0.1/IDAC1 (io), 19 P0.2 (io) "Port 0.2. See Port I/O Section for a complete description.", 20 P0.3 (io) "Port 0.3. See Port I/O Section for a complete description.", 21 P0.4/TX (io), 22 P0.5/RX (io), 23 P0.6/CNVSTR (io), 24 P0.7 (io) "Port 0.7. See Port I/O Section for a complete description.", 25 P2.0 (io) "Port 2.0. See Port I/O Section for a complete description.", 26 P2.1 (io) "Port 2.1. See Port I/O Section for a complete description.", 27 P2.2 (io) "Port 2.2. See Port I/O Section for a complete description.", 28 P2.3 (io) "Port 2.3. See Port I/O Section for a complete description.", 29 P2.4 (io) "Port 2.4. See Port I/O Section for a complete description.", 30 P2.5 (io) "Port 2.5. See Port I/O Section for a complete description.", 31 P2.6 (io) "Port 2.6. See Port I/O Section for a complete description.", 32 P2.7/C2D (io)

## C8051F411-GM
designator U?
smaRTClock, 12-Bit ADC, 50 MHz, 2.25 kB RAM, 32 kB Flash, -40 to 85 degC, 28-pin QFN; Manufacturer: Silicon Labs; PartNumber: C8051F411-GM; AEC-Q100: FALSE; Comparators: 2; DAC: 12-bit, 2-ch.; Debug Interface: C2; Dig I/O Pins: 20; Flash: 32 kB; Internal Osc. Accuracy: +/-2%; MCU Core: 8051; MHz: 50; PCA Channels: 6; RAM: 2.25 kB; Temp Sensor: TRUE; Timers (16-bit): 4; Sub-Family: Small Form Factor MCUs; DatasheetVersion: Rev. 1.1; PackageReference: QFN-28; PackageDescription: 28-Pin Quad-Flat No-Leads Package, Body 5 x 5 mm, Pitch 0.5 mm; Supplier 1: Digi-Key; Supplier Part Number 1: 336-1309-ND; Supplier 2: Farnell; Supplier Part Number 2: 1291533; Supplier 3: Newark; Supplier Part Number 3: 24M1259; Supplier 4: Mouser; Supplier Part Number 4: 634-C8051F411-GM; Mounting Technology: Surface Mount; Code_JEDEC: MO-220; Code_IPC: J-STD-020C; ComponentLink1Description: Manufacturer URL; ComponentLink1URL: http://www.silabs.com/; ComponentLink2Description: Datasheet; ComponentLink2URL: http://www.silabs.com/Support Documents/TechnicalDocs/C8051F41x.pdf; ComponentLink3Description: Package Specification; ComponentLink3URL: http://www.silabs.com/Support%20Documents/TechnicalDocs/C8051T61x.pdf
footprint SLAB-QFN-28-3125x3125TP_N (QFN, 28-Leads, Body 5x5mm, Pitch 0.5mm, Thermal Pad 3.13x3.13mm, IPC Medium Density)
footprint SLAB-QFN-28-3125x3125TP_L (QFN, 28-Leads, Body 5x5mm, Pitch 0.5mm, Thermal Pad 3.13x3.13mm, IPC High Density)
footprint SLAB-QFN-28-3125x3125TP_M (QFN, 28-Leads, Body 5x5mm, Pitch 0.5mm, Thermal Pad 3.13x3.13mm, IPC Low Density)
pins: 1 ~{RST}/C2CK (io), 2 VRTC-BACKUP (power) "smaRTClock Backup Supply Voltage.", 3 XTAL4 "smaRTClock Oscillator Crystal Output. See Section 20. "smaRTClock (Real Time Clock)" for a complete description.", 4 XTAL3 "smaRTClock Oscillator Crystal Input. See Section 20. "smaRTClock (Real Time Clock)" for a complete description.", 5 GND (power) "Ground.", 6 VDD (power) "Core Supply Voltage.", 7 VREGIN (power) "On-Chip Voltage Regulator Input.", 8 P1.0/XTAL1 (io), 9 P1.1/XTAL2 (io), 10 P1.2/VREF (io), 11 P1.3 (io) "Port 1.3. See Port I/O Section for a complete description.", 12 P1.4 (io) "Port 1.4. See Port I/O Section for a complete description.", 13 P1.5 (io) "Port 1.5. See Port I/O Section for a complete description.", 14 P1.6 (io) "Port 1.6. See Port I/O Section for a complete description.", 15 P1.7 (io) "Port 1.7. See Port I/O Section for a complete description.", 16 P0.0/IDAC0 (io), 17 P0.1/IDAC1 (io), 18 P0.2 (io) "Port 0.2. See Port I/O Section for a complete description.", 19 P0.3 (io) "Port 0.3. See Port I/O Section for a complete description.", 20 P0.4/TX (io), 21 P0.5/RX (io), 22 P0.6/CNVSTR (io), 23 P0.7 (io) "Port 0.7. See Port I/O Section for a complete description.", 24 P2.0 (io) "Port 2.0. See Port I/O Section for a complete description.", 25 P2.1 (io) "Port 2.1. See Port I/O Section for a complete description.", 26 P2.2 (io) "Port 2.2. See Port I/O Section for a complete description.", 27 P2.7/C2D (io), 28 VIO (power) "I/O Supply Voltage.", 29 GND (power)

## C8051F412-GQ
designator U?
smaRTClock, 12-Bit ADC, 50 MHz, 2.25 kB RAM, 16 kB Flash, -40 to 85 degC, 32-pin QFP; Manufacturer: Silicon Labs; PartNumber: C8051F412-GQ; AEC-Q100: FALSE; Comparators: 2; DAC: 12-bit, 2-ch.; Debug Interface: C2; Dig I/O Pins: 24; Flash: 16 kB; Internal Osc. Accuracy: +/-2%; MCU Core: 8051; MHz: 50; PCA Channels: 6; RAM: 2.25 kB; Temp Sensor: TRUE; Timers (16-bit): 4; Sub-Family: Small Form Factor MCUs; DatasheetVersion: Rev. 1.1; PackageReference: LQFP-32; PackageDescription: 32-Pin Low-Profile Quad Flat Pack, Body 7 x 7 mm, Pitch 0.8 mm; Supplier 1: Digi-Key; Supplier Part Number 1: 336-1310-ND; Supplier 2: Farnell; Supplier Part Number 2: 1291534; Supplier 3: Mouser; Supplier Part Number 3: 634-C8051F412-GQ; Mounting Technology: Surface Mount; Code_JEDEC: MS-026; Code_IPC: J-STD-020; ComponentLink1Description: Manufacturer URL; ComponentLink1URL: http://www.silabs.com/; ComponentLink2Description: Datasheet; ComponentLink2URL: http://www.silabs.com/Support Documents/TechnicalDocs/C8051F41x.pdf; ComponentLink3Description: Package Specification; ComponentLink3URL: http://www.silabs.com/Support%20Documents/TechnicalDocs/C8051F38x.pdf
footprint SLAB-LQFP-32_N (QFP, 32-Leads, Body 7x7mm, Pitch 0.8mm, IPC Medium Density)
footprint SLAB-LQFP-32_L (QFP, 32-Leads, Body 7x7mm, Pitch 0.8mm, IPC High Density)
footprint SLAB-LQFP-32_M (QFP, 32-Leads, Body 7x7mm, Pitch 0.8mm, IPC Low Density)
pins: 1 VIO (power) "I/O Supply Voltage.", 2 ~{RST}/C2CK (io), 3 VRTC-BACKUP (power) "smaRTClock Backup Supply Voltage.", 4 XTAL4 "smaRTClock Oscillator Crystal Output. See Section 20. "smaRTClock (Real Time Clock)" for a complete description.", 5 XTAL3 "smaRTClock Oscillator Crystal Input. See Section 20. "smaRTClock (Real Time Clock)" for a complete description.", 6 GND (power) "Ground.", 7 VDD (power) "Core Supply Voltage.", 8 VREGIN (power) "On-Chip Voltage Regulator Input.", 9 P1.0/XTAL1 (io), 10 P1.1/XTAL2 (io), 11 P1.2/VREF (io), 12 P1.3 (io) "Port 1.3. See Port I/O Section for a complete description.", 13 P1.4 (io) "Port 1.4. See Port I/O Section for a complete description.", 14 P1.5 (io) "Port 1.5. See Port I/O Section for a complete description.", 15 P1.6 (io) "Port 1.6. See Port I/O Section for a complete description.", 16 P1.7 (io) "Port 1.7. See Port I/O Section for a complete description.", 17 P0.0/IDAC0 (io), 18 P0.1/IDAC1 (io), 19 P0.2 (io) "Port 0.2. See Port I/O Section for a complete description.", 20 P0.3 (io) "Port 0.3. See Port I/O Section for a complete description.", 21 P0.4/TX (io), 22 P0.5/RX (io), 23 P0.6/CNVSTR (io), 24 P0.7 (io) "Port 0.7. See Port I/O Section for a complete description.", 25 P2.0 (io) "Port 2.0. See Port I/O Section for a complete description.", 26 P2.1 (io) "Port 2.1. See Port I/O Section for a complete description.", 27 P2.2 (io) "Port 2.2. See Port I/O Section for a complete description.", 28 P2.3 (io) "Port 2.3. See Port I/O Section for a complete description.", 29 P2.4 (io) "Port 2.4. See Port I/O Section for a complete description.", 30 P2.5 (io) "Port 2.5. See Port I/O Section for a complete description.", 31 P2.6 (io) "Port 2.6. See Port I/O Section for a complete description.", 32 P2.7/C2D (io)

## C8051F413-GM
designator U?
smaRTClock, 12-Bit ADC, 50 MHz, 2.25 kB RAM, 16 kB Flash, -40 to 85 degC, 28-pin QFN; Manufacturer: Silicon Labs; PartNumber: C8051F413-GM; AEC-Q100: FALSE; Comparators: 2; DAC: 12-bit, 2-ch.; Debug Interface: C2; Dig I/O Pins: 20; Flash: 16 kB; Internal Osc. Accuracy: +/-2%; MCU Core: 8051; MHz: 50; PCA Channels: 6; RAM: 2.25 kB; Temp Sensor: TRUE; Timers (16-bit): 4; Sub-Family: Small Form Factor MCUs; DatasheetVersion: Rev. 1.1; PackageReference: QFN-28; PackageDescription: 28-Pin Quad-Flat No-Leads Package, Body 5 x 5 mm, Pitch 0.5 mm; Supplier 1: Digi-Key; Supplier Part Number 1: 336-1311-ND; Supplier 2: Mouser; Supplier Part Number 2: 634-C8051F413-GM; Mounting Technology: Surface Mount; Code_JEDEC: MO-220; Code_IPC: J-STD-020C; ComponentLink1Description: Manufacturer URL; ComponentLink1URL: http://www.silabs.com/; ComponentLink2Description: Datasheet; ComponentLink2URL: http://www.silabs.com/Support Documents/TechnicalDocs/C8051F41x.pdf; ComponentLink3Description: Package Specification; ComponentLink3URL: http://www.silabs.com/Support%20Documents/TechnicalDocs/C8051T61x.pdf
footprint SLAB-QFN-28-3125x3125TP_N (QFN, 28-Leads, Body 5x5mm, Pitch 0.5mm, Thermal Pad 3.13x3.13mm, IPC Medium Density)
footprint SLAB-QFN-28-3125x3125TP_L (QFN, 28-Leads, Body 5x5mm, Pitch 0.5mm, Thermal Pad 3.13x3.13mm, IPC High Density)
footprint SLAB-QFN-28-3125x3125TP_M (QFN, 28-Leads, Body 5x5mm, Pitch 0.5mm, Thermal Pad 3.13x3.13mm, IPC Low Density)
pins: 1 ~{RST}/C2CK (io), 2 VRTC-BACKUP (power) "smaRTClock Backup Supply Voltage.", 3 XTAL4 "smaRTClock Oscillator Crystal Output. See Section 20. "smaRTClock (Real Time Clock)" for a complete description.", 4 XTAL3 "smaRTClock Oscillator Crystal Input. See Section 20. "smaRTClock (Real Time Clock)" for a complete description.", 5 GND (power) "Ground.", 6 VDD (power) "Core Supply Voltage.", 7 VREGIN (power) "On-Chip Voltage Regulator Input.", 8 P1.0/XTAL1 (io), 9 P1.1/XTAL2 (io), 10 P1.2/VREF (io), 11 P1.3 (io) "Port 1.3. See Port I/O Section for a complete description.", 12 P1.4 (io) "Port 1.4. See Port I/O Section for a complete description.", 13 P1.5 (io) "Port 1.5. See Port I/O Section for a complete description.", 14 P1.6 (io) "Port 1.6. See Port I/O Section for a complete description.", 15 P1.7 (io) "Port 1.7. See Port I/O Section for a complete description.", 16 P0.0/IDAC0 (io), 17 P0.1/IDAC1 (io), 18 P0.2 (io) "Port 0.2. See Port I/O Section for a complete description.", 19 P0.3 (io) "Port 0.3. See Port I/O Section for a complete description.", 20 P0.4/TX (io), 21 P0.5/RX (io), 22 P0.6/CNVSTR (io), 23 P0.7 (io) "Port 0.7. See Port I/O Section for a complete description.", 24 P2.0 (io) "Port 2.0. See Port I/O Section for a complete description.", 25 P2.1 (io) "Port 2.1. See Port I/O Section for a complete description.", 26 P2.2 (io) "Port 2.2. See Port I/O Section for a complete description.", 27 P2.7/C2D (io), 28 VIO (power) "I/O Supply Voltage.", 29 GND (power)

## C8051T600-GM
designator U?
Mixed-Signal Byte-Programmable EPROM MCU, 25 MHz, 0.25 kB RAM, 8 kB OTP Flash, -40 to 85 degC, 11-pin QFN; Manufacturer: Silicon Labs; PartNumber: C8051T600-GM; ADC 1: 10-bit, 8-ch., 500 ksps; Comparators: 1; Debug Interface: C2; Dig I/O Pins: 8; Flash: 8 kB OTP; Internal Osc. Accuracy: +/-2%; MCU Core: 8051; MHz: 25; PCA Channels: 3; RAM: 0.25 kB; Temp Sensor: TRUE; Sub-Family: Small Form Factor MCUs; DatasheetVersion: Rev. 1.2; PackageReference: QFN-11; PackageDescription: 11-Pin Quad-Flat No-Leads Package, Body 3 x 3 mm, Pitch 0.5 mm; Supplier 1: Digi-Key; Supplier Part Number 1: 336-1402-5-ND; Supplier 2: Mouser; Supplier Part Number 2: 634-C8051T600-GM; Timers (16-bit): 3; Mounting Technology: Surface Mount; Code_JEDEC: MO-243; Code_IPC: J-STD-020C; ComponentLink1Description: Manufacturer URL; ComponentLink1URL: http://www.silabs.com/; ComponentLink2Description: Datasheet; ComponentLink2URL: http://www.silabs.com/Support Documents/TechnicalDocs/C8051T60x.pdf; ComponentLink3Description: Package Specification; ComponentLink3URL: http://www.silabs.com/Support%20Documents/TechnicalDocs/Si3462.pdf
footprint SLAB-QFN-11-1350x2250TP_N (QFN, 11-Leads, Body 3x3mm, Pitch 0.5mm, Thermal Pad 3x1.35mm, IPC Medium Density)
footprint SLAB-QFN-11-1350x2250TP_L (QFN, 11-Leads, Body 3x3mm, Pitch 0.5mm, Thermal Pad 3x1.35mm, IPC High Density)
footprint SLAB-QFN-11-1350x2250TP_M (QFN, 11-Leads, Body 3x3mm, Pitch 0.5mm, Thermal Pad 3x1.35mm, IPC Low Density)
pins: 1 P0.0/VREF (io), 2 P0.1 (io) "Port 0.1.", 3 VDD (power) "Power Supply Voltage.", 4 P0.2/VPP (io), 5 P0.3/EXTCLK (io), 6 P0.4 (io) "Port 0.4.", 7 P0.5 (io) "Port 0.5.", 8 ~{RST}/C2CK (io), 9 P0.6/CNVSTR (io), 10 P0.7/C2D (io), 11 GND (power) "Ground (Optional)."

## C8051T600-GS
designator U?
Mixed-Signal Byte-Programmable EPROM MCU, 25 MHz, 0.25 kB RAM, 8 kB OTP Flash, -40 to 85 degC, 14-pin SOIC; Manufacturer: Silicon Labs; PartNumber: C8051T600-GS; ADC 1: 10-bit, 8-ch., 500 ksps; Comparators: 1; Debug Interface: C2; Dig I/O Pins: 8; Flash: 8 kB OTP; Internal Osc. Accuracy: +/-2%; MCU Core: 8051; MHz: 25; PCA Channels: 3; RAM: 0.25 kB; Temp Sensor: TRUE; Sub-Family: Small Form Factor MCUs; DatasheetVersion: Rev. 1.2; PackageReference: SOIC-14; PackageDescription: 14-Pin Small-Outline Integrated Circuit, Body 8.65 x 3.9 mm, Pitch 1.27 mm; Supplier 1: Digi-Key; Supplier Part Number 1: 336-1403-5-ND; Supplier 2: Mouser; Supplier Part Number 2: 634-C8051T600-GS; Timers (16-bit): 3; Mounting Technology: Surface Mount; Code_JEDEC: MS012; Code_IPC: J-STD-020; ComponentLink1Description: Manufacturer URL; ComponentLink1URL: http://www.silabs.com/; ComponentLink2Description: Datasheet; ComponentLink2URL: http://www.silabs.com/Support Documents/TechnicalDocs/C8051T60x.pdf; ComponentLink3Description: Package Specification; ComponentLink3URL: http://www.silabs.com/Support Documents/TechnicalDocs/C8051T60x.pdf
footprint SLAB-SOIC-14_N (SOIC, 14-Leads, Body 8.65x3.9mm, Pitch 1.27mm, IPC Medium Density)
footprint SLAB-SOIC-14_L (SOIC, 14-Leads, Body 8.65x3.9mm, Pitch 1.27mm, IPC High Density)
footprint SLAB-SOIC-14_M (SOIC, 14-Leads, Body 8.65x3.9mm, Pitch 1.27mm, IPC Low Density)
pins: 1 P0.6/CNVSTR (io), 2 P0.7/C2D (io), 3 GND (power) "Ground.", 4 NC "No Connection.", 5 P0.0/VREF (io), 6 P0.1 (io) "Port 0.1.", 7 VDD (power) "Power Supply Voltage.", 8 P0.2/VPP (io), 9 NC "No Connection.", 10 P0.3/EXTCLK (io), 11 NC "No Connection.", 12 P0.4 (io) "Port 0.4.", 13 P0.5 (io) "Port 0.5.", 14 ~{RST}/C2CK (io)

## C8051T601-GM
designator U?
Mixed-Signal Byte-Programmable EPROM MCU, 25 MHz, 0.25 kB RAM, 8 kB OTP Flash, -40 to 85 degC, 11-pin QFN; Manufacturer: Silicon Labs; PartNumber: C8051T601-GM; Comparators: 1; Debug Interface: C2; Dig I/O Pins: 8; Flash: 8 kB OTP; Internal Osc. Accuracy: +/-2%; MCU Core: 8051; MHz: 25; PCA Channels: 3; RAM: 0.25 kB; Temp Sensor: FALSE; Sub-Family: Small Form Factor MCUs; DatasheetVersion: Rev. 1.2; PackageReference: QFN-11; PackageDescription: 11-Pin Quad-Flat No-Leads Package, Body 3 x 3 mm, Pitch 0.5 mm; Supplier 1: Digi-Key; Supplier Part Number 1: 336-1652-5-ND; Supplier 2: Mouser; Supplier Part Number 2: 634-C8051T601-GM; Timers (16-bit): 3; Mounting Technology: Surface Mount; Code_JEDEC: MO-243; Code_IPC: J-STD-020C; ComponentLink1Description: Manufacturer URL; ComponentLink1URL: http://www.silabs.com/; ComponentLink2Description: Datasheet; ComponentLink2URL: http://www.silabs.com/Support Documents/TechnicalDocs/C8051T60x.pdf; ComponentLink3Description: Package Specification; ComponentLink3URL: http://www.silabs.com/Support%20Documents/TechnicalDocs/Si3462.pdf
footprint SLAB-QFN-11-1350x2250TP_N (QFN, 11-Leads, Body 3x3mm, Pitch 0.5mm, Thermal Pad 3x1.35mm, IPC Medium Density)
footprint SLAB-QFN-11-1350x2250TP_L (QFN, 11-Leads, Body 3x3mm, Pitch 0.5mm, Thermal Pad 3x1.35mm, IPC High Density)
footprint SLAB-QFN-11-1350x2250TP_M (QFN, 11-Leads, Body 3x3mm, Pitch 0.5mm, Thermal Pad 3x1.35mm, IPC Low Density)
pins: 1 P0.0/VREF (io), 2 P0.1 (io) "Port 0.1.", 3 VDD (power) "Power Supply Voltage.", 4 P0.2/VPP (io), 5 P0.3/EXTCLK (io), 6 P0.4 (io) "Port 0.4.", 7 P0.5 (io) "Port 0.5.", 8 ~{RST}/C2CK (io), 9 P0.6/CNVSTR (io), 10 P0.7/C2D (io), 11 GND (power) "Ground (Optional)."

## C8051T601-GS
designator U?
Mixed-Signal Byte-Programmable EPROM MCU, 25 MHz, 0.25 kB RAM, 8 kB OTP Flash, -40 to 85 degC, 14-pin SOIC; Manufacturer: Silicon Labs; PartNumber: C8051T601-GS; Comparators: 1; Debug Interface: C2; Dig I/O Pins: 8; Flash: 8 kB OTP; Internal Osc. Accuracy: +/-2%; MCU Core: 8051; MHz: 25; PCA Channels: 3; RAM: 0.25 kB; Temp Sensor: FALSE; Sub-Family: Small Form Factor MCUs; DatasheetVersion: Rev. 1.2; PackageReference: SOIC-14; PackageDescription: 14-Pin Small-Outline Integrated Circuit, Body 8.65 x 3.9 mm, Pitch 1.27 mm; Supplier 1: Digi-Key; Supplier Part Number 1: 336-1653-5-ND; Supplier 2: Mouser; Supplier Part Number 2: 634-C8051T601-GS; Timers (16-bit): 3; Mounting Technology: Surface Mount; Code_JEDEC: MS012; Code_IPC: J-STD-020; ComponentLink1Description: Manufacturer URL; ComponentLink1URL: http://www.silabs.com/; ComponentLink2Description: Datasheet; ComponentLink2URL: http://www.silabs.com/Support Documents/TechnicalDocs/C8051T60x.pdf; ComponentLink3Description: Package Specification; ComponentLink3URL: http://www.silabs.com/Support Documents/TechnicalDocs/C8051T60x.pdf
footprint SLAB-SOIC-14_N (SOIC, 14-Leads, Body 8.65x3.9mm, Pitch 1.27mm, IPC Medium Density)
footprint SLAB-SOIC-14_L (SOIC, 14-Leads, Body 8.65x3.9mm, Pitch 1.27mm, IPC High Density)
footprint SLAB-SOIC-14_M (SOIC, 14-Leads, Body 8.65x3.9mm, Pitch 1.27mm, IPC Low Density)
pins: 1 P0.6/CNVSTR (io), 2 P0.7/C2D (io), 3 GND (power) "Ground.", 4 NC "No Connection.", 5 P0.0/VREF (io), 6 P0.1 (io) "Port 0.1.", 7 VDD (power) "Power Supply Voltage.", 8 P0.2/VPP (io), 9 NC "No Connection.", 10 P0.3/EXTCLK (io), 11 NC "No Connection.", 12 P0.4 (io) "Port 0.4.", 13 P0.5 (io) "Port 0.5.", 14 ~{RST}/C2CK (io)